# EAGLE library part 2X3 (library weidmüller)
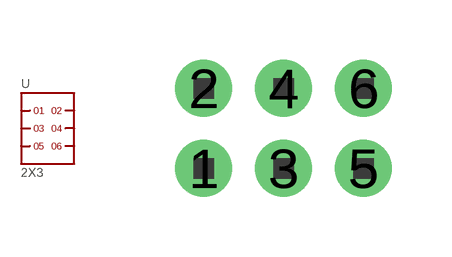
[diagram p3: symbol with the pads of 2X3; footprint 2X3]

Designator prefix -

## 2X3  [2X3]
1  1
2  2
3  3
4  4
5  5
6  6

## Footprint 2X3 (pad centres in mm)
drill 0.8 pad 1.422: 1 -2,-1; 2 -2,1; 3 0,-1; 4 0,1; 5 2,-1; 6 2,1